# Altium footprint library BMP581.PcbLib: 1 footprints
Each footprint in its own frame and in the unit in brackets; x right, y up, seen from the top. Pads: shape width x height; smd on the part's side, far side on the other; paste and mask are expansions set on the pad; w line width, h text height; cw(c..) or ccw(c..) is an arc to the next point about the centre after c.
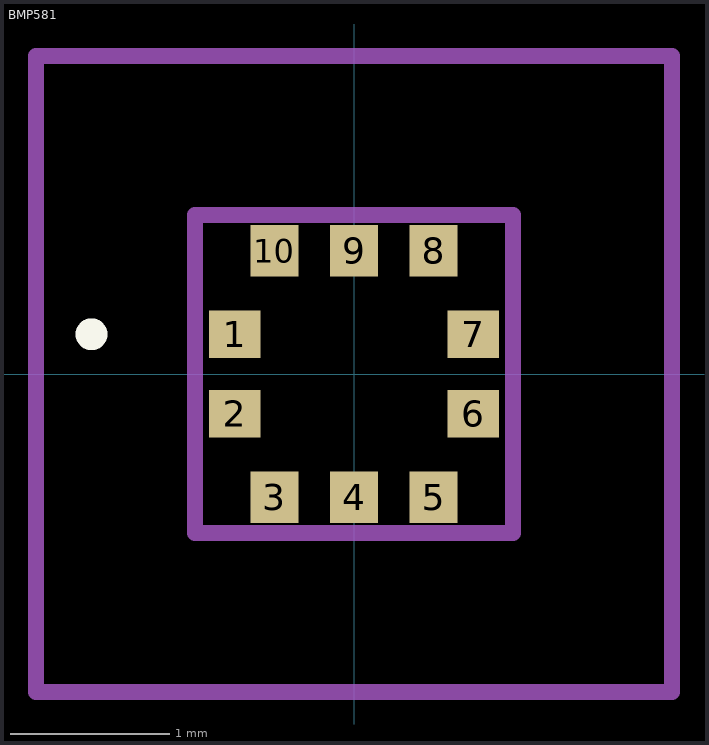
[diagram p0: the footprint, top view; thin cyan lines are the x and y axes]

## BMP581 [mm]
pads (10):
  rect 0.325x0.3 smd: 1(-0.75,0.25) 2(-0.75,-0.25) 6(0.75,-0.25) 7(0.75,0.25)
  rect 0.3x0.325 smd: 3(-0.5,-0.775) 4(0,-0.775) 5(0.5,-0.775) 8(0.5,0.775) 9(0,0.775) 10(-0.5,0.775)
Top Overlay:
  lines w0.1: -1.7,0.25 cw(c-1.65,0.25) -1.6,0.25 ; -1.7,0.25 -1.7,0.25 ; -1.7,0.25 ccw(c-1.65,0.25) -1.6,0.25 ; -1.6,0.25 -1.6,0.25
Mechanical 15:
  lines w0.1: -1,-1 1,-1 1,1 -1,1 -1,-1
Mechanical 20:
  lines w0.1: -2,-2 2,-2 2,2 -2,2 -2,-2